# EAGLE library part LSF-SMT_3.81_22_90 (library weidmueller_martin)
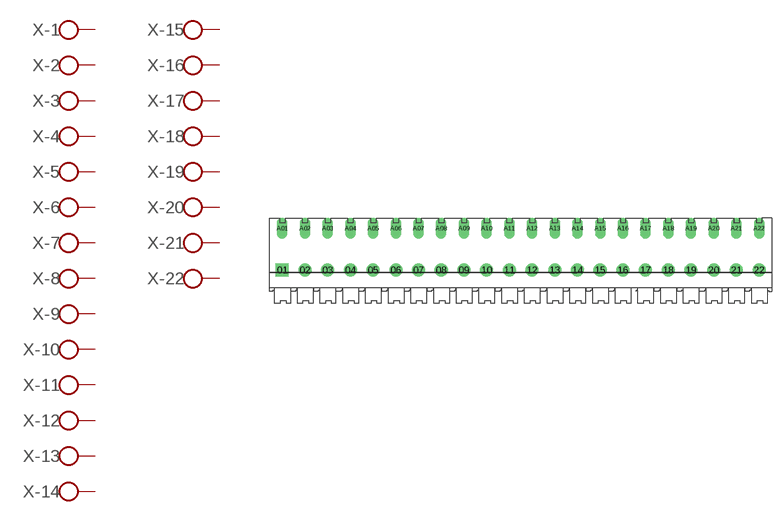
[diagram p0: symbol with the pads of LSF-SMT_3.81_22; footprint LSF-SMT_3.81_22]

Designator prefix X; gates -1=KL -2=KL -3=KL -4=KL -5=KL -6=KL -7=KL -8=KL -9=KL -10=KL -11=KL -12=KL -13=KL -14=KL -15=KL -16=KL -17=KL -18=KL -19=KL -20=KL -21=KL -22=KL

## LSF-SMT_3.81_22_90  [LSF-SMT_3.81_22]
01  -1:KL  pas
02  -2:KL  pas
03  -3:KL  pas
04  -4:KL  pas
05  -5:KL  pas
06  -6:KL  pas
07  -7:KL  pas
08  -8:KL  pas
09  -9:KL  pas
10  -10:KL  pas
11  -11:KL  pas
12  -12:KL  pas
13  -13:KL  pas
14  -14:KL  pas
15  -15:KL  pas
16  -16:KL  pas
17  -17:KL  pas
18  -18:KL  pas
19  -19:KL  pas
20  -20:KL  pas
21  -21:KL  pas
22  -22:KL  pas
A01  -1:KL  pas
A02  -2:KL  pas
A03  -3:KL  pas
A04  -4:KL  pas
A05  -5:KL  pas
A06  -6:KL  pas
A07  -7:KL  pas
A08  -8:KL  pas
A09  -9:KL  pas
A10  -10:KL  pas
A11  -11:KL  pas
A12  -12:KL  pas
A13  -13:KL  pas
A14  -14:KL  pas
A15  -15:KL  pas
A16  -16:KL  pas
A17  -17:KL  pas
A18  -18:KL  pas
A19  -19:KL  pas
A20  -20:KL  pas
A21  -21:KL  pas
A22  -22:KL  pas

## Footprint LSF-SMT_3.81_22 (pad centres in mm)
drill 1.2 pad 2.184 square: 01 0,-7
drill 1.2 pad 2.184 round: 02 3.81,-7; 03 7.62,-7; 04 11.43,-7; 05 15.24,-7; 06 19.05,-7; 07 22.86,-7; 08 26.67,-7; 09 30.48,-7; 10 34.29,-7; 11 38.1,-7; 12 41.91,-7; 13 45.72,-7; 14 49.53,-7; 15 53.34,-7; 16 57.15,-7; 17 60.96,-7; 18 64.77,-7; 19 68.58,-7; 20 72.39,-7; 21 76.2,-7; 22 80.01,-7
drill 1.2 long: A01 0,0; A02 3.81,0; A03 7.62,0; A04 11.43,0; A05 15.24,0; A06 19.05,0; A07 22.86,0; A08 26.67,0; A09 30.48,0; A10 34.29,0; A11 38.1,0; A12 41.91,0; A13 45.72,0; A14 49.53,0; A15 53.34,0; A16 57.15,0; A17 60.96,0; A18 64.77,0; A19 68.58,0; A20 72.39,0; A21 76.2,0; A22 80.01,0